# EAGLE library part DAC_UMAX (library voltageReg)
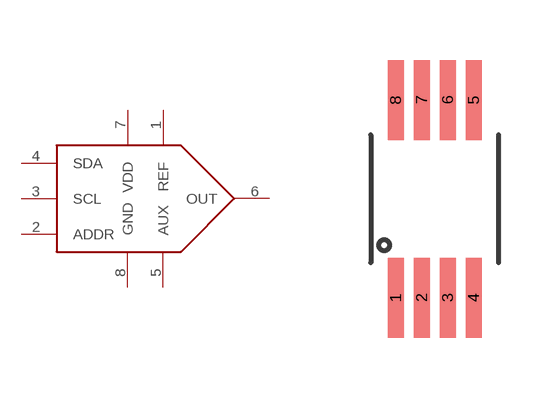
[diagram p2: symbol with the pads of 8-UMAX; footprint 8-UMAX]

Designator prefix U

## DAC_UMAX  [8-UMAX]
1  REF
2  ADDR
3  SCL
4  SDA
5  AUX
6  OUT
7  VDD
8  GND

## Footprint 8-UMAX (pad centres in mm)
smd 0.4 x 2: 1 0,0; 2 0.65,0; 3 1.3,0; 4 1.95,0; 5 1.95,4.95; 6 1.3,4.95; 7 0.65,4.95; 8 0,4.95